# Altium footprint library Taillight.PcbLib: 2 footprints
Each footprint in its own frame and in the unit in brackets; x right, y up, seen from the top. Pads: shape width x height; smd on the part's side, far side on the other; paste and mask are expansions set on the pad; w line width, h text height; cw(c..) or ccw(c..) is an arc to the next point about the centre after c.
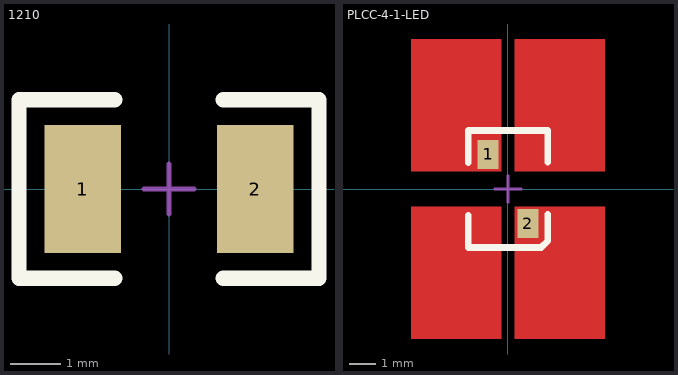
[diagram p0: the footprints below, top view; thin cyan lines are the x and y axes]

## 1210 [mil]
height 199.21
pads (2):
  rect 60x100 smd: 1(-67.5,0) 2(67.5,0)
Top Overlay:
  lines w12: -42.5,-70 -117.5,-70 -117.5,70 -42.5,70 ; 42.5,-70 117.5,-70 117.5,70 42.5,70
Mechanical 15:
  lines w3.94: -19.68,0 19.69,0 ; 0,-19.68 0,19.69
3D body "1210-RES.STEP": height 29.53, standoff 0, extent -62.99,-49.21 63,49.22

## PLCC-4-1-LED [mm]
height 5.06
pads (2):
  rect 0.8x1.1 smd: 1(-0.75,1.3) 2(0.75,-1.3)
Top Layer:
  region: -0.25,-0.65 -3.65,-0.65 -3.65,-5.65 -0.25,-5.65
  rectangle: -3.65,0.65 -0.25,5.65
  region: 3.65,-0.65 0.25,-0.65 0.25,-5.65 3.65,-5.65
  rectangle: 0.25,0.65 3.65,5.65
Top Overlay:
  lines w0.254: -1.5,-1 -1.5,-2.2 1.25,-2.2 1.5,-1.95 1.5,-1.25 1.5,-0.95 ; -1.5,0.991 -1.5,2.2 1.5,2.2 1.5,1.016
Top Solder:
  region: -0.25,-0.65 -1.25,-0.65 -1.25,-1.95 -0.25,-1.95
  rectangle: 0.25,0.65 1.25,1.95
Mechanical 15:
  lines w0.1: -0.5,0 0.5,0 ; 0,-0.5 0,0.5
3D body "LS_E63F_20170906_geometry.STEP": height 3.68, standoff -0.09, extent -1.4,-1.75 1.4,1.75